# EAGLE library part P82B715 (library custom_parts)
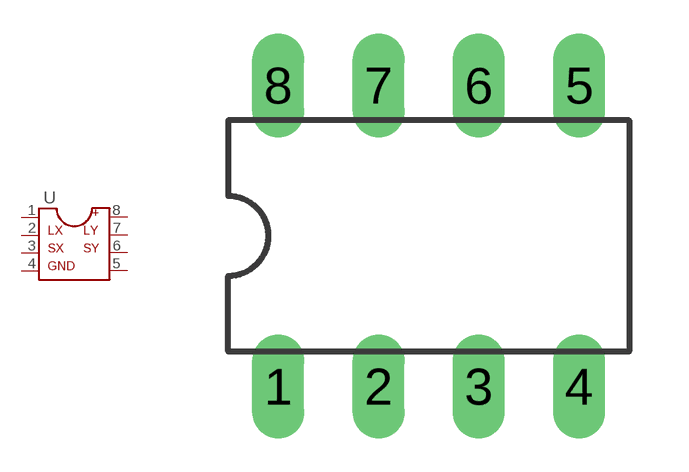
[diagram p1: symbol with the pads of DIL08; footprint DIL08]

Designator prefix -

## P82B715  [DIL08]
1  NC2  pas
2  LX  pas
3  SX  pas
4  GND  pas
5  NC1  pas
6  SY  pas
7  LY  pas
8  VCC  pas

## Footprint DIL08 (pad centres in mm)
Dual In Line Package
drill 0.813 long: 1 -3.81,-3.81; 2 -1.27,-3.81; 3 1.27,-3.81; 4 3.81,-3.81; 5 3.81,3.81; 6 1.27,3.81; 7 -1.27,3.81; 8 -3.81,3.81